# EAGLE library part AP7583AQ-50MP-13 (library AP7583AQ-50MP-13)
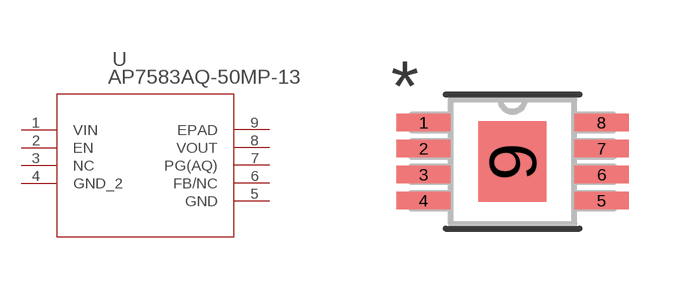
[diagram p0: symbol with the pads of MSOP-8EP_DIO; footprint MSOP-8EP_DIO]

Designator prefix U

## AP7583AQ-50MP-13 (COPYRIGHT: Copyright (C) 2024 Ultra Librarian. All rights reserved.; MANUFACTURER_PART_NUMBER: AP7583AQ-50MP-13; MFR_NAME: Diodes Inc; TYPE: Power Management)  [MSOP-8EP_DIO]
1  VIN  in
2  EN  in
3  NC  nc
4  GND_2  pas
5  GND  pas
6  FB/NC  pas
7  PG(AQ)  pas
8  VOUT  out
9  EPAD  pas

## Footprint MSOP-8EP_DIO (pad centres in mm)
smd 1.359 x 0.432: 1 -2.229,0.975; 2 -2.229,0.325; 3 -2.229,-0.325; 4 -2.229,-0.975; 5 2.229,-0.975; 6 2.229,-0.325; 7 2.229,0.325; 8 2.229,0.975
smd 1.702 x 2.007: 9 0,0